# Altium schematic symbol library 403_Library.SchLib: 6 symbols
Pins are listed as number, name and electrical type; pins without a type are passive.

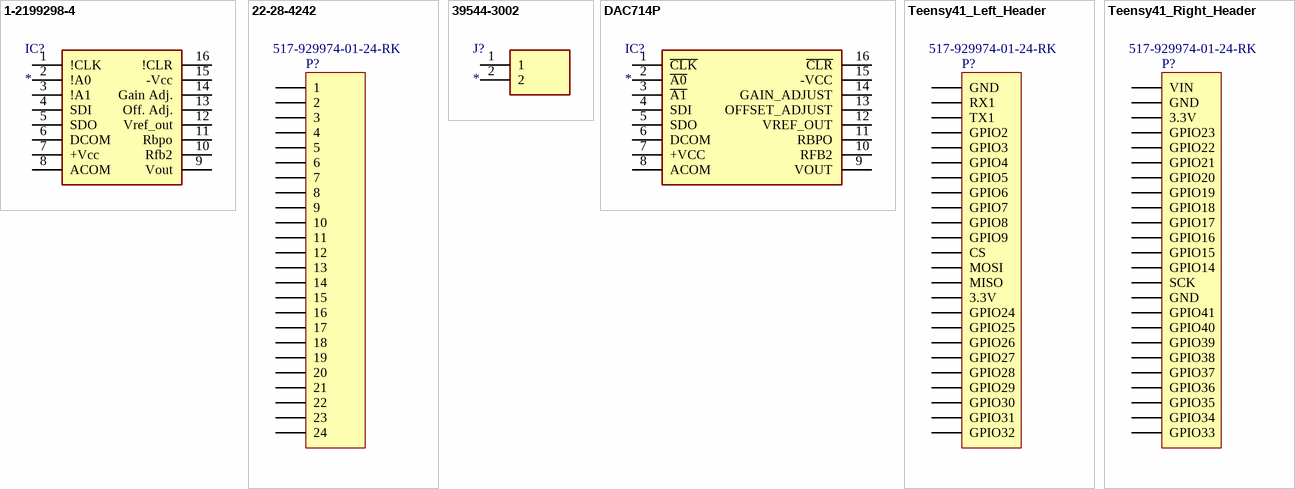
[diagram p0: symbols 1-2199298-4 to Teensy41_Right_Header]

## 1-2199298-4
designator IC?
Integrated Circuit; Manufacturer_Name: TE Connectivity; Manufacturer_Part_Number: 1-2199298-4; Description: TE CONNECTIVITY - 1-2199298-4 - IC SOCKET; Datasheet Link: https://www.te.com/commerce/DocumentDelivery/DDEController?Action=showdoc&DocId=Customer+Drawing%7F2199298%7FA%7Fpdf%7FEnglish%7FENG_CD_2199298_A_baseFilename.pdf%7F1-2199298-4; Height: 5.1mm
footprint DIPS762W70P254L2032H510Q16N
pins: 1 !CLK, 2 !A0, 3 !A1, 4 SDI, 5 SDO, 6 DCOM, 7 +Vcc, 8 ACOM, 9 Vout, 10 Rfb2, 11 Rbpo, 12 Vref_out, 13 Off. Adj., 14 Gain Adj., 15 -Vcc, 16 !CLR

## 22-28-4242
designator P?  Supplier Part Number 1: 517-929974-01-24-RK
929974-01-24-RK Header, 24-Pin. Teensy 4.1 compatible.; LatestRevisionDate: 17-Jul-2002; LatestRevisionNote: Re-released for DXP Platform.; Publisher: Altium Limited; Supplier 1: Mouser
signal-integrity model Connector
footprint 22-28-4242 (Connector; Male Pin Header; 24 Position; Molex 22-28-4242)
pins: 1, 2, 3, 4, 5, 6, 7, 8, 9, 10, 11, 12, 13, 14, 15, 16, 17, 18, 19, 20, 21, 22, 23, 24

## 39544-3002
designator J?
Connector; Manufacturer_Name: Molex; Manufacturer_Part_Number: 39544-3002; Description: Fixed Terminal Blocks 5.08MM FIXED 2P VERTICAL BLK; Datasheet Link: https://componentsearchengine.com/Datasheets/2/39544-3002.pdf; Height: 14.4mm
footprint 395443002 (Molex 395443002)
pins: 1, 2

## DAC714P
designator IC?
Integrated Circuit; Manufacturer_Name: Texas Instruments; Manufacturer_Part_Number: DAC714P; Datasheet Link: http://www.ti.com/lit/ds/symlink/dac714.pdf; Height: 5.08mm
footprint DIP794W53P254L1930H508Q16N
pins: 1 ~{CLK}, 2 ~{A0}, 3 ~{A1}, 4 SDI, 5 SDO, 6 DCOM, 7 +VCC, 8 ACOM, 9 VOUT, 10 RFB2, 11 RBPO, 12 VREF_OUT, 13 OFFSET_ADJUST, 14 GAIN_ADJUST, 15 -VCC, 16 ~{CLR}

## Teensy41_Left_Header
designator P?  Supplier Part Number 1: 517-929974-01-24-RK
929974-01-24-RK Header, 24-Pin. Teensy 4.1 compatible.; LatestRevisionDate: 17-Jul-2002; LatestRevisionNote: Re-released for DXP Platform.; Publisher: Altium Limited; Supplier 1: Mouser
signal-integrity model Connector
footprint HDR1X24 (Connector; Header; 24 Position)
pins: 1 GND, 2 RX1, 3 TX1, 4 GPIO2, 5 GPIO3, 6 GPIO4, 7 GPIO5, 8 GPIO6, 9 GPIO7, 10 GPIO8, 11 GPIO9, 12 CS, 13 MOSI, 14 MISO, 15 3.3V, 16 GPIO24, 17 GPIO25, 18 GPIO26, 19 GPIO27, 20 GPIO28, 21 GPIO29, 22 GPIO30, 23 GPIO31, 24 GPIO32

## Teensy41_Right_Header
designator P?  Supplier Part Number 1: 517-929974-01-24-RK
929974-01-24-RK_1 Header, 24-Pin. Teensy 4.1 compatible.; LatestRevisionDate: 17-Jul-2002; LatestRevisionNote: Re-released for DXP Platform.; Publisher: Altium Limited; Supplier 1: Mouser
signal-integrity model Connector
footprint HDR1X24 (Connector; Header; 24 Position)
pins: 1 VIN, 2 GND, 3 3.3V, 4 GPIO23, 5 GPIO22, 6 GPIO21, 7 GPIO20, 8 GPIO19, 9 GPIO18, 10 GPIO17, 11 GPIO16, 12 GPIO15, 13 GPIO14, 14 SCK, 15 GND, 16 GPIO41, 17 GPIO40, 18 GPIO39, 19 GPIO38, 20 GPIO37, 21 GPIO36, 22 GPIO35, 23 GPIO34, 24 GPIO33